# Altium schematic symbol library HT7550.SCHLIB: 1 symbol
Pins are listed as number, name and electrical type; pins without a type are passive.

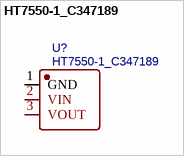
[diagram p0: symbol HT7550-1_C347189]

## HT7550-1_C347189
designator U?
BOM_Manufacturer: Youtai Semiconductor Co., Ltd.; Contributor: LCSC; BOM_Supplier: LCSC; BOM_Supplier Part: C347189; BOM_Manufacturer Part: HT7550-1; BOM_JLCPCB Part Class: Extended Part; spicePre: U; spiceSymbolName: HT7550-1_C347189
footprint SOT-89_L4.5-W2.5-P1.50-LS4.2-BR
pins: 1 GND, 2 VIN, 3 VOUT